# EAGLE library part 418117170912 (library Eagle_Wuerth_Elektronik_Switch)
WS-BS 2.54 mm compact THT Dip Switch with flat actuator, 12 Pole
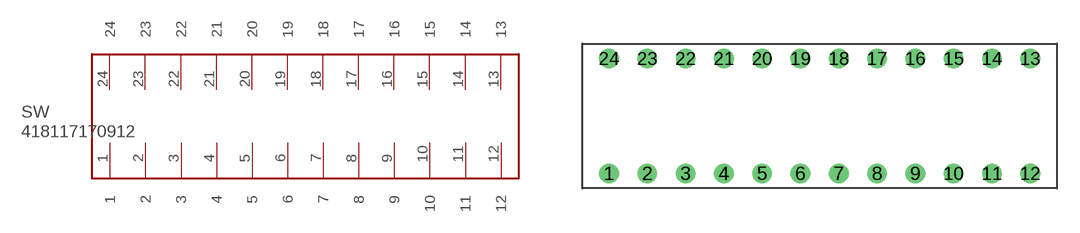
[diagram p73: symbol with the pads of 418117170912; footprint 418117170912]

Designator prefix SW

## 418117170912  [418117170912]
1  1
2  2
3  3
4  4
5  5
6  6
7  7
8  8
9  9
10  10
11  11
12  12
13  13
14  14
15  15
16  16
17  17
18  18
19  19
20  20
21  21
22  22
23  23
24  24

## Footprint 418117170912 (pad centres in mm)
WS-BS 2.54 mm compact THT Dip Switch with flat actuator, 12 Pole
drill 0.8: 1 0,-3.81; 2 2.54,-3.81; 3 5.08,-3.81; 4 7.62,-3.81; 5 10.16,-3.81; 6 12.7,-3.81; 7 15.24,-3.81; 8 17.78,-3.81; 9 20.32,-3.81; 10 22.86,-3.81; 11 25.4,-3.81; 12 27.94,-3.81; 13 27.94,3.81; 14 25.4,3.81; 15 22.86,3.81; 16 20.32,3.81; 17 17.78,3.81; 18 15.24,3.81; 19 12.7,3.81; 20 10.16,3.81; 21 7.62,3.81; 22 5.08,3.81; 23 2.54,3.81; 24 0,3.81